# EAGLE library part 66200821122 (library Wuerth_Elektronik_eiCan_08_Micro_Power_Connectors)
WR-MPC3 3.00mm Male Dual Row Vertical Header, 8 Pins
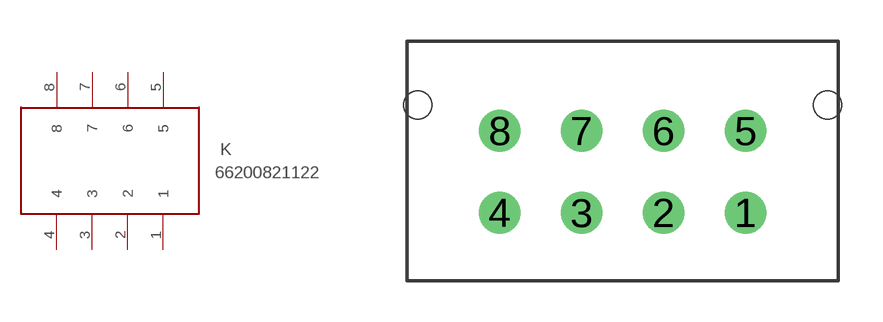
[diagram p1: symbol with the pads of 66200821122; footprint 66200821122]

Designator prefix K

## 66200821122  [66200821122]
1  1
2  2
3  3
4  4
5  5
6  6
7  7
8  8

## Footprint 66200821122 (pad centres in mm)
WR-MPC3-3.00mm Male Dual Row Vertical Header,8 pins
drill 1.02 round: 1 0,-1.5; 2 -3,-1.5; 3 -6,-1.5; 4 -9,-1.5; 5 0,1.5; 6 -3,1.5; 7 -6,1.5; 8 -9,1.5
hole 1.02 at -12,2.44
hole 1.02 at 3,2.44